# Altium footprint library PcbLib1.PcbLib: 32 footprints (part 1 of 2)
Each footprint in its own frame and in the unit in brackets; x right, y up, seen from the top. Pads: shape width x height; smd on the part's side, far side on the other; paste and mask are expansions set on the pad; w line width, h text height; cw(c..) or ccw(c..) is an arc to the next point about the centre after c.
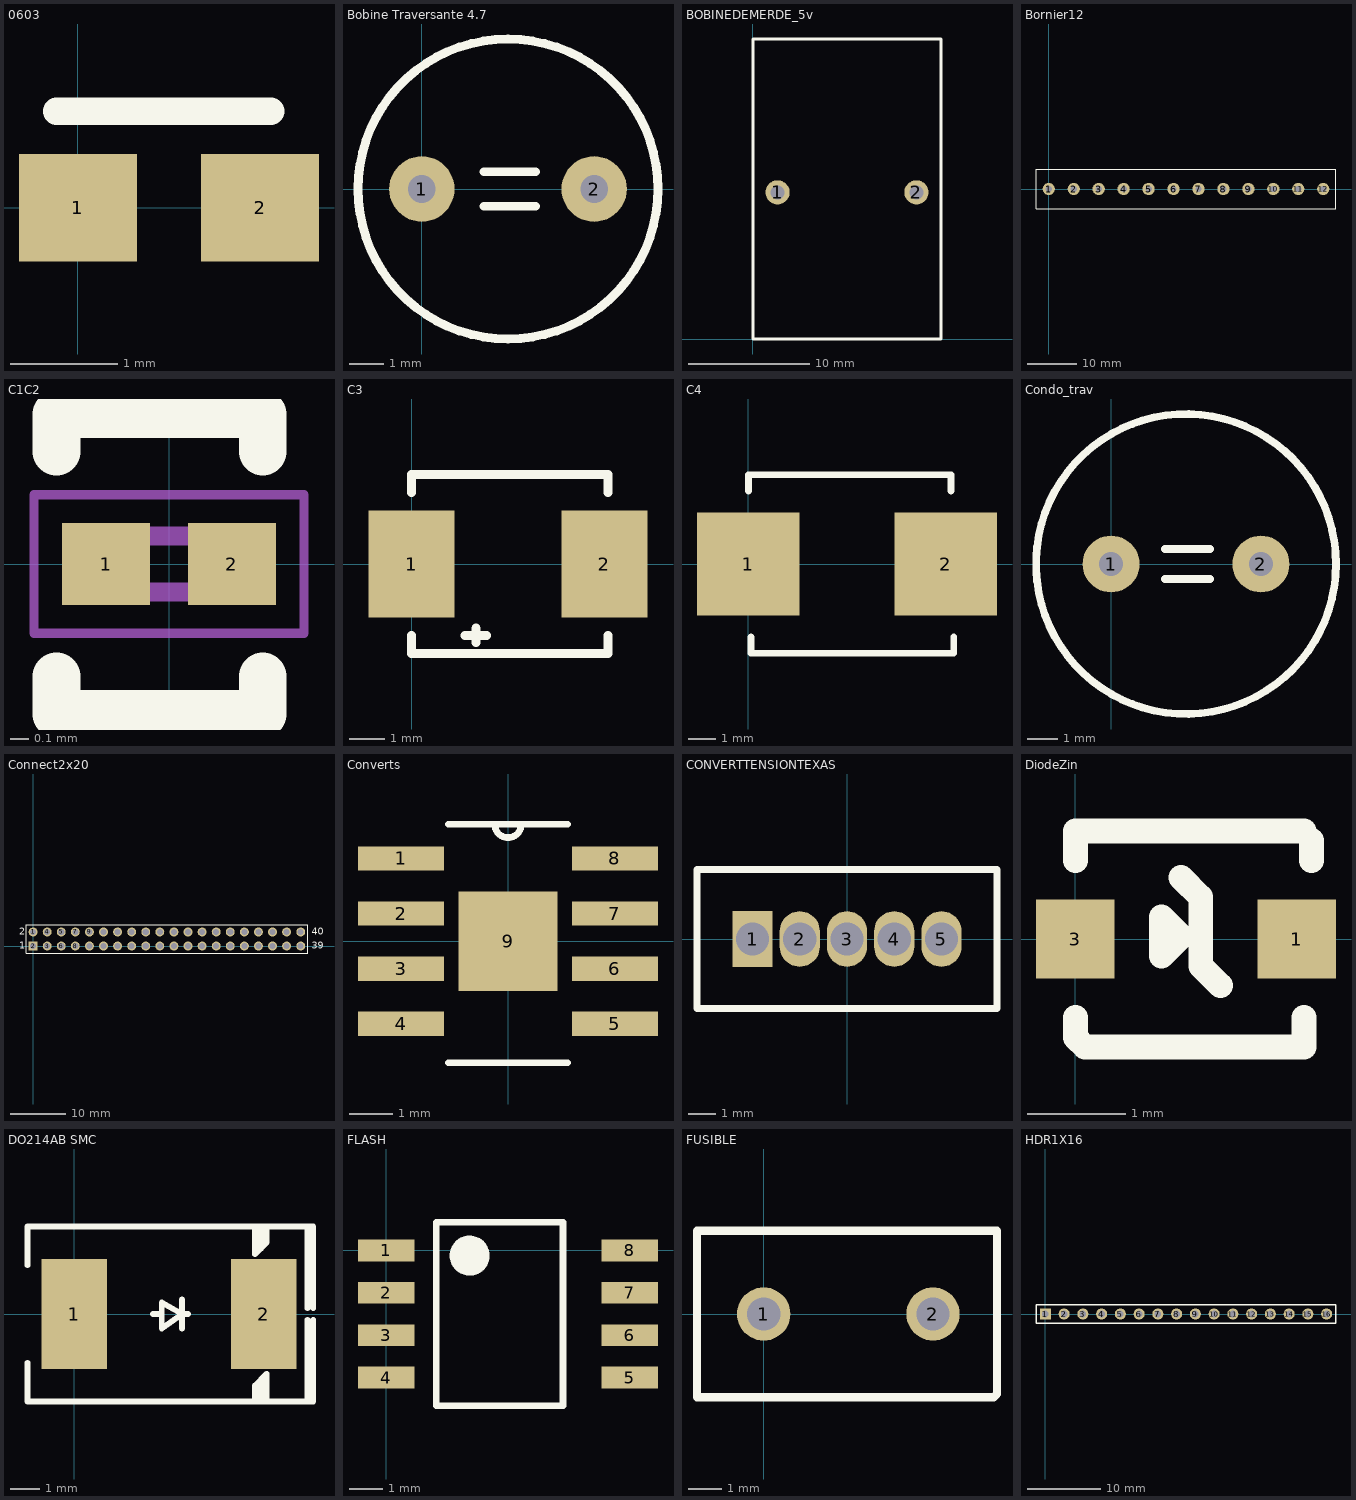
[diagram p0: the footprints below, top view; thin cyan lines are the x and y axes]

## 0603 [mm] "Chip Inductor, Body 0.6x0.3mm, IPC High Density"
height 0.55
pads (2):
  rect 1.1x1 smd: 1(0,0) 2(1.7,0)
Top Overlay:
  lines w0.254: -0.2,0.9 1.8,0.9

## Bobine Traversante 4.7 [mm]
height 12
pads (2):
  round 1.9 hole 0.8: 1(0,0) 2(5,0)
Top Overlay:
  circle w0.254: c2.5,0 r4.35
  lines w0.254: 1.8,-0.5 3.3,-0.5 ; 1.8,0.5 3.3,0.5

## BOBINEDEMERDE_5v [mm]
pads (2):
  round 2 hole 1.143: 1(2.03,12.07) 2(13.47,12.07)
Top Overlay:
  lines w0.254: 0,24.64 0,0 15.5,0 15.5,24.64 ; 0,24.7 15.5,24.7

## Bornier12 [mm]
height 10
pads (12):
  round 2.5 hole 1.3: 1(0,0) 2(5.08,0) 3(10.16,0) 4(15.24,0) 5(20.32,0) 6(25.4,0) 7(30.48,0) 8(35.56,0) 9(40.64,0) 10(45.72,0) 11(50.8,0) 12(55.88,0)
Top Overlay:
  lines w0.254: -2.6,-4 -2.6,4 58.48,4 58.48,-4 -2.6,-4

## C1C2 [mm]
pads (2):
  rect 0.47x0.44 smd: 1(-0.335,0) 2(0.335,0)
Top Overlay:
  lines w0.254: -0.6,-0.6 -0.6,-0.8 0.5,-0.8 0.5,-0.6 ; -0.6,0.8 0.5,0.8 ; -0.6,0.8 -0.6,0.6 -0.6,0.8 ; -0.6,0.8 0.5,0.8 ; 0.5,0.8 0.5,0.6 0.5,0.8
Mechanical 15:
  lines w0.1: -0.3,-0.15 -0.3,0.15 0.3,0.15 0.3,-0.15 -0.3,-0.15
Mechanical 20:
  lines w0.05: -0.72,-0.37 -0.72,0.37 0.72,0.37 0.72,-0.37 -0.72,-0.37

## C3 [mm]
pads (2):
  rect 2.4x3 smd: 1(0,0) 2(5.4,0)
Top Overlay:
  lines w0.254: 0,-2 0,-2.5 5.5,-2.5 5.5,-2 ; 0,2 0,2.5 5.5,2.5 5.5,2 ; 1.5,-2 2.1,-2 ; 1.8,-2.2 1.8,-1.8

## C4 [mm]
height 2
pads (2):
  rect 3.8x3.8 smd: 1(0,0) 2(7.3,0)
Top Overlay:
  lines w0.254: 0,2.7 0,3.3 7.5,3.3 7.5,2.7 ; 0.1,-2.7 0.1,-3.3 7.6,-3.3 7.6,-2.7

## Condo_trav [mm]
height 16
pads (2):
  round 1.9 hole 0.8: 1(0,0) 2(5,0)
Top Overlay:
  circle w0.254: c2.5,0 r5.004
  lines w0.254: 1.8,-0.5 3.3,-0.5 ; 1.8,0.5 3.3,0.5

## Connect2x20 [mm] "Connector; Header; 20x2 Position"
height 6
pads (40):
  round 1.6 hole 1.1: 1(0,2.54) 3(2.54,0) 4(2.54,2.54) 5(5.08,2.54) 6(5.08,0) 7(7.62,2.54) 8(7.62,0) 9(10.16,2.54) 10(10.16,0) 11(12.7,0) 12(12.7,2.54) 13(15.24,0) 14(15.24,2.54) 15(17.78,0) 16(17.78,2.54) 17(20.32,0) 18(20.32,2.54) 19(22.86,0) 20(22.86,2.54) 21(25.4,0) 22(25.4,2.54) 23(27.94,0) 24(27.94,2.54) 25(30.48,0) 26(30.48,2.54) 27(33.02,0) 28(33.02,2.54) 29(35.56,0) 30(35.56,2.54) 31(38.1,0) 32(38.1,2.54) 33(40.64,0) 34(40.64,2.54) 35(43.18,0) 36(43.18,2.54) 37(45.72,0) 38(45.72,2.54) 39(48.26,0) 40(48.26,2.54)
  rect 1.6x1.6 hole 1.1: 2(0,0)
Top Overlay:
  lines w0.2: -1.27,-1.27 49.53,-1.27 49.53,3.81 -1.27,3.81 -1.27,-1.27
  text "1" at -2.54,-0.508 h1.27
  text "2" at -2.54,2.032 h1.27
  text "40" at 50.292,2.032 h1.27
  text "39" at 50.292,-0.508 h1.27

## Converts [mil]
pads (9):
  rect 78x22 smd: 1(-97,75) 2(-97,25) 3(-97,-25) 4(-97,-75) 5(97,-75) 6(97,-25) 7(97,25) 8(97,75)
  rect 90x90 smd: 9(0,0)
Top Overlay:
  lines w6: -54,-110.24 54,-110.24 ; -54,105.87 -12,105.87 ; 54,105.87 12,105.87 ; -12,105.87 ccw(c0,105.87) 12,105.87 ; -12,105.87 12,105.87

## CONVERTTENSIONTEXAS [mm] "Convertisseur de bordel de tension"
pads (5):
  rect 1.45x2 hole 1.2: 1(-3.4,0)
  oval 1.45x2 hole 1.2: 2(-1.7,0) 3(0,0) 4(1.7,0) 5(3.4,0)
Top Overlay:
  lines w0.254: -5.4,-2.5 -4.1,-2.5 5.4,-2.5 5.4,2.5 4.1,2.5 -5.4,2.5 -5.4,-2.5

## DiodeZin [mm]
height 1
pads (2):
  rect 0.8x0.8 smd: 1(2.25,0) 3(0,0)
Top Overlay:
  lines w0.254: 0,-0.8 0,-1 0.1,-1.1 2.325,-1.1 2.325,-0.8 ; 0,0.8 0,1.1 2.325,1.1 ; 1.075,0.625 1.275,0.425 1.275,0.325 1.275,-0.275 1.475,-0.475 ; 2.4,0.8 2.4,1 ; 0.875,-0.175 1.075,0.025 0.875,0.225 0.875,-0.175

## DO214AB SMC [mm] "Molded Diode, 2-Leads, Body 6.85x5.90mm, IPC Medium Density"
height 2.62
pads (2):
  rect 2.25x3.79 smd: 1(0,0) 2(6.5,0)
Top Overlay:
  lines w0.2: -1.6,-1.675 -1.6,-3 8.2,-3 8.2,-0.2 ; -1.6,1.675 -1.6,3 8.2,3 8.2,0.2 ; 2.7,0 3,0 ; 3.7,-0.5 3.7,0.5 ; 3.9,0 3.7,0 ; 6.2,-2.9 6.2,-2.45 6.6,-2.05 6.6,-2.95 ; 6.2,2.95 6.2,2.05 ; 6.4,-3 6.4,-2.25 ; 6.4,3 6.4,2.25 6.2,2.05 ; 6.6,2.9 6.6,2.45 6.2,2.05 ; 8,-3 8,-0.2 ; 8,-0.5 8.2,-0.5 ; 8,0.2 8,3 ; 8,0.5 8.2,0.5 ; 3.7,0 3,0.4 3,-0.5 3.7,0

## FLASH [mm] "8-Pin Plastic Medium Body Small Outline Package 1.27 mm Pitch, IPC Medium Density"
height 2.04
pads (8):
  rect 1.7x0.65 smd: 1(0,0) 2(0,-1.27) 3(0,-2.54) 4(0,-3.81) 5(7.3,-3.81) 6(7.3,-2.54) 7(7.3,-1.27) 8(7.3,0)
Top Overlay:
  circle w0.6: c2.5,-0.155 r0.3
  lines w0.2: 1.5,-4.655 1.5,0.845 5.3,0.845 5.3,-4.655 1.5,-4.655

## FUSIBLE [mm]
height 8
pads (2):
  round 1.6 hole 1: 1(0,0) 2(5.08,0)
Top Overlay:
  lines w0.254: -2,-2.5 6.9,-2.5 7,-2.4 7,2.5 -2,2.5 -2,0 -2,-2.5

## HDR1X16 [mm] "Connector; Header; 16 Position"
pads (16):
  rect 1.5x1.5 hole 0.9: 1(0,0)
  round 1.5 hole 0.9: 2(2.54,0) 3(5.08,0) 4(7.62,0) 5(10.16,0) 6(12.7,0) 7(15.24,0) 8(17.78,0) 9(20.32,0) 10(22.86,0) 11(25.4,0) 12(27.94,0) 13(30.48,0) 14(33.02,0) 15(35.56,0) 16(38.1,0)
Top Overlay:
  lines w0.2: -1.27,-1.27 -1.27,1.27 0.635,1.27 39.37,1.27 39.37,-1.27 -1.27,-1.27